# Altium footprint library SMD_0402.PcbLib: 1 footprints
Each footprint in its own frame and in the unit in brackets; x right, y up, seen from the top. Pads: shape width x height; smd on the part's side, far side on the other; paste and mask are expansions set on the pad; w line width, h text height; cw(c..) or ccw(c..) is an arc to the next point about the centre after c.
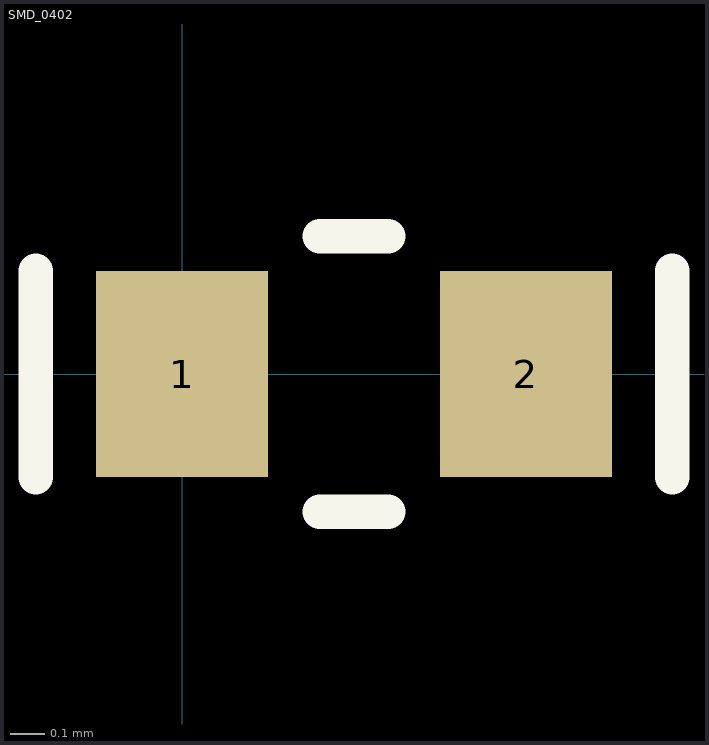
[diagram p0: the footprint, top view; thin cyan lines are the x and y axes]

## SMD_0402 [mm]
pads (2):
  rect 0.5x0.6 smd: 1(0,0) 2(1,0)
Top Overlay:
  lines w0.1: -0.425,-0.3 -0.425,0.3 ; 0.4,-0.4 0.6,-0.4 ; 0.4,0.4 0.6,0.4 ; 1.425,-0.3 1.425,0.3
3D body "SMD_RLC_0402.STEP": height 0.34, standoff -0.01, extent -0.032,-0.25 0.968,0.25